# EAGLE library part 24LCXX (library machine_science)
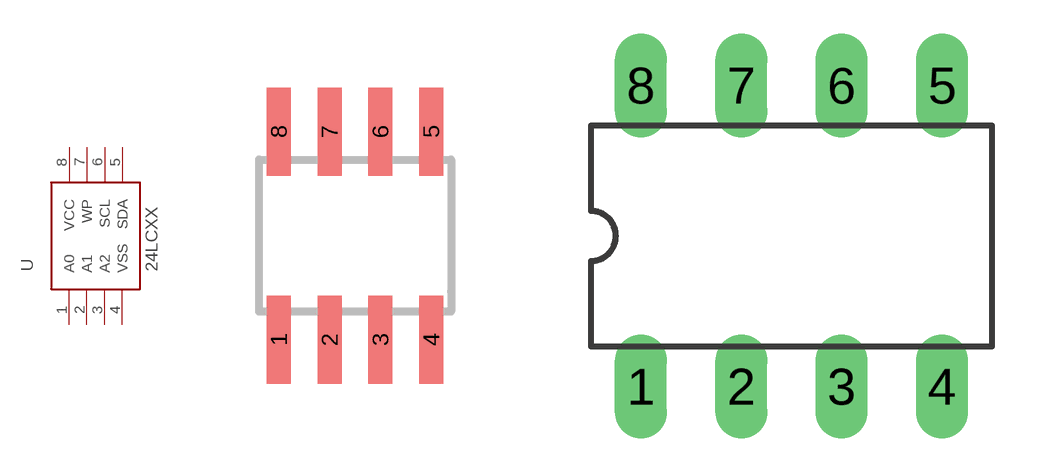
[diagram p1: symbol with the pads of SOIC_8; footprints SOIC_8, DIL8]

Designator prefix U

## 24LCXX  [SOIC_8]
1  A0
2  A1
3  A2
4  VSS  pwr
5  SDA
6  SCL
7  WP
8  VCC  pwr

## 24LCXX_DIP  [DIL8]
Pads as for SOIC_8

## Footprint SOIC_8 (pad centres in mm)
smd 0.6 x 2.2: 1 -1.905,-2.6; 2 -0.635,-2.6; 3 0.635,-2.6; 4 1.905,-2.6; 5 1.905,2.6; 6 0.635,2.6; 7 -0.635,2.6; 8 -1.905,2.6

## Footprint DIL8 (pad centres in mm)
drill 0.813 long: 1 -3.81,-3.81; 2 -1.27,-3.81; 3 1.27,-3.81; 4 3.81,-3.81; 5 3.81,3.81; 6 1.27,3.81; 7 -1.27,3.81; 8 -3.81,3.81